# EAGLE library part PH_2X03 (library PP_Connectors)
6 pin 2x3 connectors
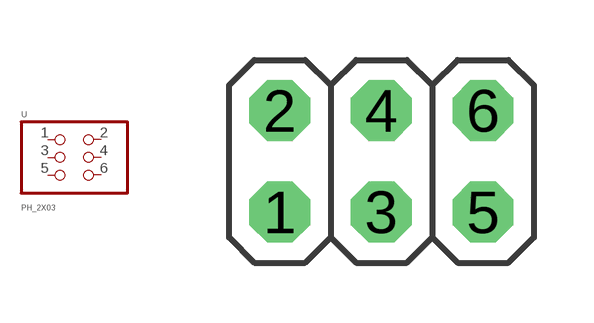
[diagram p1: symbol with the pads of HEADER_02X03_PTH; footprint HEADER_02X03_PTH]

Designator prefix -

## PH_2X03HEADER_PTH  [HEADER_02X03_PTH]
1  1  pas
2  2  pas
3  3  pas
4  4  pas
5  5  pas
6  6  pas

## Footprint HEADER_02X03_PTH (pad centres in mm)
drill 1.016 octagon: 1 0,-2.54; 2 0,0; 3 2.54,-2.54; 4 2.54,0; 5 5.08,-2.54; 6 5.08,0